# Altium footprint library IND 5050.PcbLib: 1 footprints
Each footprint in its own frame and in the unit in brackets; x right, y up, seen from the top. Pads: shape width x height; smd on the part's side, far side on the other; paste and mask are expansions set on the pad; w line width, h text height; cw(c..) or ccw(c..) is an arc to the next point about the centre after c.
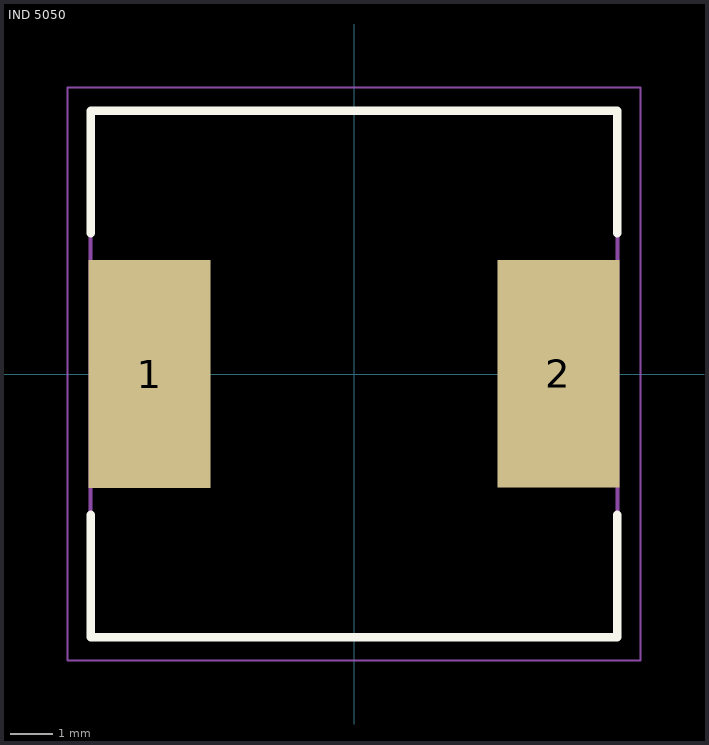
[diagram p0: the footprint, top view; thin cyan lines are the x and y axes]

## IND 5050 [mm]
pads (2):
  rect 2.9x5.4 smd: 1(-4.85,0) 2(4.85,0.008)
Top Overlay:
  lines w0.2: -6.25,-3.337 -6.25,-6.25 6.25,-6.25 6.25,-3.337 ; -6.25,3.337 -6.25,6.25 6.25,6.25 6.25,3.337
Top Assembly:
  lines w0.1: -6.25,-6.25 6.25,-6.25 6.25,6.25 -6.25,6.25 -6.25,-6.25
Top Courtyard:
  lines w0.05: -6.8,-6.8 6.8,-6.8 6.8,6.8 -6.8,6.8 -6.8,-6.8
Top Designator:
  text ".Designator" at -7.494,-0.496 h1.5
3D body "SRR1280A.stp": height 7.83, standoff 0, extent -6.25,-6.25 6.25,6.25